# Altium integrated library TT_Electronics-OVLBx4C7-LED.IntLib: 3 symbols
Pins are listed as number, name and electrical type; pins without a type are passive.

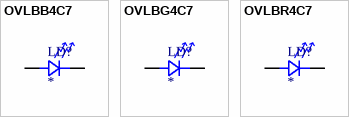
[diagram p0: symbols OVLBB4C7 to OVLBR4C7]

## OVLBB4C7
designator LD?
LED BLUE CLEAR 3MM ROUND T/H
footprint OVLBx4C7 (TT_Electronics 3mm LED)
pins: 1, 2

## OVLBG4C7
designator LD?
LED GREEN CLEAR 3MM ROUND T/H
footprint OVLBx4C7 (TT_Electronics 3mm LED)
pins: 1, 2

## OVLBR4C7
designator LD?
LED RED CLEAR 3MM ROUND T/H
footprint OVLBx4C7 (TT_Electronics 3mm LED)
pins: 1, 2